# Altium schematic symbol library 6.Chips.SchLib: 209 symbols (part 3 of 3)
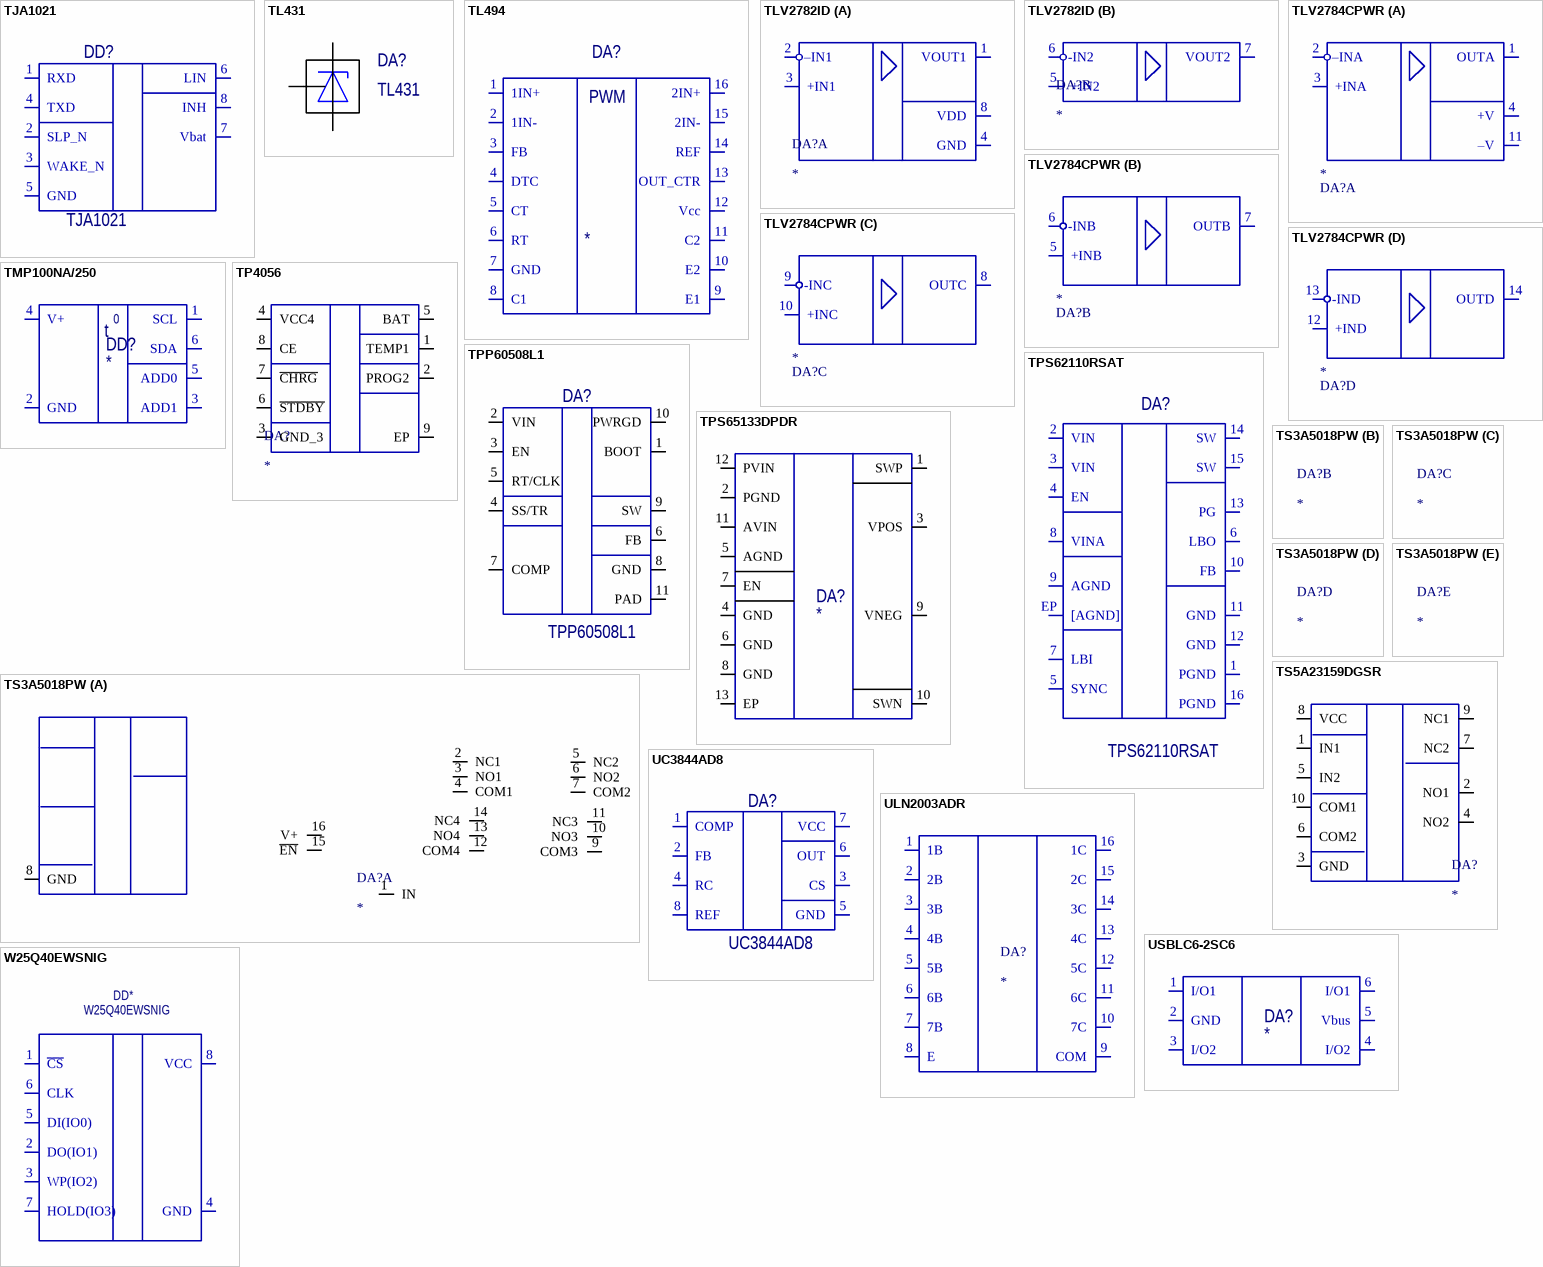
[diagram p21: symbols TJA1021 to W25Q40EWSNIG]

## TL494
designator DA?
Pulse-Width-Modulation Control Circuits
footprint DIP16
footprint SOIC-16
pins: 1 1IN+, 2 1IN-, 3 FB, 4 DTC, 5 CT, 6 RT, 7 GND, 8 C1, 9 E1, 10 E2, 11 C2, 12 Vcc, 13 OUT_CTR, 14 REF, 15 2IN-, 16 2IN+
text: PWM

## TLV2782ID
designator DA?
Dual, 3.6-V, 8-MHz, RRIO operational amplifier; Manufacturer_Name: Texas Instruments; Manufacturer_Part_Number: TLV2782ID; Datasheet Link: http://www.ti.com/lit/gpn/tlv2782; Height: 1.75mm; Mouser Part Number: 595-TLV2782ID; Mouser Price/Stock: https://www.mouser.co.uk/ProductDetail/Texas-Instruments/TLV2782ID?qs=KaAwwOlwaps46pVAsEzz%252Bw%3D%3D; Arrow Part Number: TLV2782ID; Arrow Price/Stock: https://www.arrow.com/en/products/tlv2782id/texas-instruments
footprint SO-8 (SOIC, 8-Leads, Body 4,90x3,90mm, Pitch 1,27mm, IPC Medium Density)
footprint TSSOP-8
part A pins: 1 VOUT1, 2 –IN1, 3 +IN1, 4 GND, 8 VDD
part B pins: 5 +IN2, 6 -IN2, 7 VOUT2

## TLV2784CPWR
designator DA?
Integrated Circuit; Manufacturer_Name: Texas Instruments; Manufacturer_Part_Number: TLV2784CPWR; Datasheet Link: http://www.ti.com/lit/gpn/tlv2784; Height: 1.2mm; Mouser Part Number: 595-TLV2784CPWR; Mouser Price/Stock: https://www.mouser.co.uk/ProductDetail/Texas-Instruments/TLV2784CPWR?qs=m96fseALk3VQ%2Fli%2FMNA%2FQg%3D%3D; Arrow Part Number: TLV2784CPWR; Arrow Price/Stock: https://www.arrow.com/en/products/tlv2784cpwr/texas-instruments?region=nac
footprint SOP65P640X120-14N
part A pins: 1 OUTA, 2 –INA, 3 +INA, 4 +V, 11 –V
part B pins: 5 +INB, 6 -INB, 7 OUTB
part C pins: 8 OUTC, 9 -INC, 10 +INC
part D pins: 12 +IND, 13 -IND, 14 OUTD

## TMP100NA/250
designator DD?
HelpURL: https://static.chipdip.ru/lib/245/DOC000245875.pdf
footprint SOT-23-6 (SOT23, 6-Leads, Body 1,60x1,60mm, Pitch 0,50mm, IPC Medium Density)
pins: 1 SCL, 2 GND, 3 ADD1, 4 V+ , 5 ADD0, 6 SDA
text: 0; t

## TP4056
designator DA?
1A Standalone Linear Li-lon Battery Charger with Thermal / Regulation in SOP-8; Manufacturer_Name: NanJing Top Power; Manufacturer_Part_Number: TP4056; Datasheet Link: https://dlnmh9ip6v2uc.cloudfront.net/datasheets/Prototyping/TP4056.pdf; Height: 1.75mm
footprint HSOIC8
pins: 1 TEMP1, 2 PROG2, 3 GND_3, 4 VCC4, 5 BAT, 6 ~{STDBY}, 7 ~{CHRG}, 8 CE, 9 EP

## TPP60508L1
designator DA?
DC-DC вход 60В 5A несинхронный понижающий
footprint DFN4x4-10 (4x4mm)
pins: 1 BOOT, 2 VIN, 3 EN, 4 SS/TR, 5 RT/CLK, 6 FB, 7 COMP, 8 GND, 9 SW, 10 PWRGD, 11 PAD

## TPS62110RSAT
designator DA?
Step-Down DC/DC Converters (Integrated Switch) 9V to 30V Input Max; ComponentLink1Description: ds; ComponentLink1URL: https://www.ti.com/lit/ds/symlink/tps62110.pdf?ts=1597961771362&ref_url=https%253A%252F%252Fwww.rlocman.ru%252Fdatasheet%252Fdata.html%253Fdi%253D219501%2526%252FTPS62110RSAT
footprint RSA (PQFN-16) (QFN, 16-Leads, Body 4.00x4.00mm, Pitch 0.65mm, Thermal Pad 2.70x2.70mm, IPC Medium Density)
pins: 1 PGND, 2 VIN, 3 VIN, 4 EN, 5 SYNC, 6 LBO, 7 LBI, 8 VINA, 9 AGND, 10 FB, 11 GND, 12 GND, 13 PG, 14 SW, 15 SW, 16 PGND, EP [AGND]

## TPS65133DPDR
designator DA?
±5V, 250-mA Dual-Output Power Supply
footprint WSON-12 (Footprint not found)
pins: 1 SWP, 2 PGND, 3 VPOS, 4 GND, 5 AGND, 6 GND, 7 EN, 8 GND, 9 VNEG, 10 SWN, 11 AVIN, 12 PVIN, 13 EP

## TS3A5018PW
designator DA?
Аналоговый ключ счетверенный SPDT 16TSSOP / Корпус: 16-TSSOP; Manufacturer_Name: Texas Instruments; Manufacturer_Part_Number: TS3A5018PW; Datasheet Link: http://www.ti.com/lit/gpn/TS3A5018; Height: 1.2mm; Mouser Part Number: 595-TS3A5018PW; Mouser Price/Stock: https://www.mouser.co.uk/ProductDetail/Texas-Instruments/TS3A5018PW?qs=0O%2FZFlpUpJUc9sI3WCMQxA%3D%3D; Arrow Part Number: TS3A5018PW; Arrow Price/Stock: https://www.arrow.com/en/products/ts3a5018pw/texas-instruments
footprint SO-16 (SOIC, 16-Leads, Body 9,90x3,90mm, Pitch 1,27mm, IPC Medium Density)
part A pins: 1 IN, 2 NC1, 3 NO1, 4 COM1, 5 NC2, 6 NO2, 7 COM2, 8 GND, 9 COM3, 10 NO3, 11 NC3, 12 COM4, 13 NO4, 14 NC4, 15 ~{EN}, 16 V+

## TS5A23159DGSR
designator DA?
Аналоговый ключ сдвоенный SPDT (один полюс -два направления; Manufacturer_Name: Texas Instruments; Manufacturer_Part_Number: TS5A23159DGSR; Datasheet Link: http://www.ti.com/lit/gpn/ts5a23159; Height: 1.1mm; Mouser Part Number: 595-TS5A23159DGSR; Mouser Price/Stock: https://www.mouser.co.uk/ProductDetail/Texas-Instruments/TS5A23159DGSR?qs=BBezV1N05%2FsTd3NWlbW5BA%3D%3D; Arrow Part Number: TS5A23159DGSR; Arrow Price/Stock: https://www.arrow.com/en/products/ts5a23159dgsr/texas-instruments?region=nac
footprint VSSOP-10 (VSSOP-8)
pins: 1 IN1, 2 NO1, 3 GND, 4 NO2, 5 IN2, 6 COM2, 7 NC2, 8 VCC, 9 NC1, 10 COM1

## UC3844AD8
designator DA?
footprint SO-8 (SOIC, 8-Leads, Body 4,90x3,90mm, Pitch 1,27mm, IPC Medium Density)
pins: 1 COMP, 2 FB, 3 CS, 4 RC, 5 GND, 6 OUT, 7 VCC, 8 REF

## ULN2003ADR
designator DA?
footprint SO-16 (SOIC, 16-Leads, Body 9,90x3,90mm, Pitch 1,27mm, IPC Medium Density)
pins: 1 1B, 2 2B, 3 3B, 4 4B, 5 5B, 6 6B, 7 7B, 8 E, 9 COM, 10 7C, 11 6C, 12 5C, 13 4C, 14 3C, 15 2C, 16 1C

## USBLC6-2SC6
designator DA?
HelpURL: https://static.chipdip.ru/lib/093/DOC001093117.pdf
footprint SOT-23-6 (SOT23, 6-Leads, Body 1,60x1,60mm, Pitch 0,50mm, IPC Medium Density)
pins: 1 I/O1, 2 GND, 3 I/O2, 4 I/O2, 5 Vbus, 6 I/O1

## W25Q40EWSNIG
designator DD*
footprint SOIC127P600X175-8N
pins: 1 ~{CS}, 2 DO(IO1), 3 WP(IO2), 4 GND, 5 DI(IO0), 6 CLK, 7 HOLD(IO3), 8 VCC

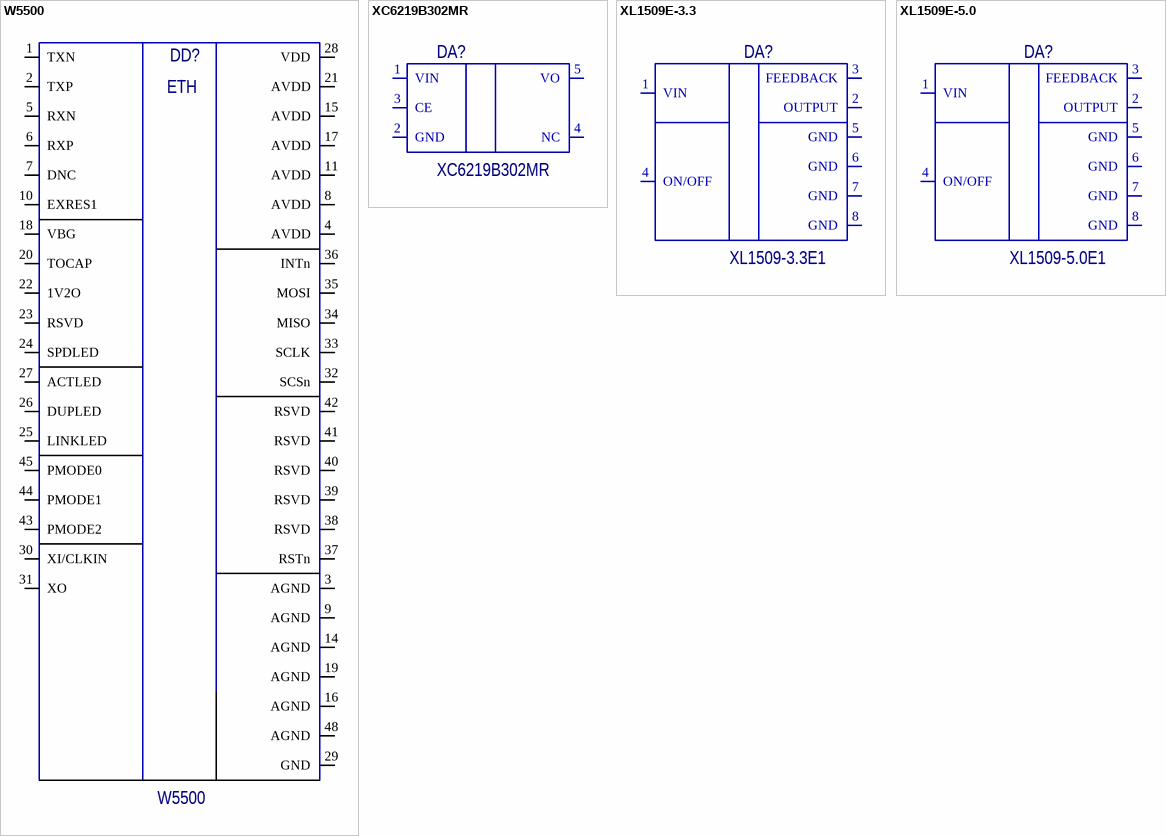
[diagram p19: symbols W5500 to XL1509E-5.0]

## W5500
designator DD?
Hardwired TCP/IP embedded Ethernet controller
footprint LQFP48 (TSQFP, 48-Leads, Body 7,00x7,00mm, Pitch 0,50mm, IPC Medium Density)
pins: 1 TXN, 2 TXP, 3 AGND, 4 AVDD, 5 RXN, 6 RXP, 7 DNC, 8 AVDD, 9 AGND, 10 EXRES1, 11 AVDD, 14 AGND, 15 AVDD, 16 AGND, 17 AVDD, 18 VBG, 19 AGND, 20 TOCAP, 21 AVDD, 22 1V2O, 23 RSVD, 24 SPDLED, 25 LINKLED, 26 DUPLED, 27 ACTLED, 28 VDD, 29 GND, 30 XI/CLKIN, 31 XO, 32 SCSn, 33 SCLK, 34 MISO, 35 MOSI, 36 INTn, 37 RSTn, 38 RSVD, 39 RSVD, 40 RSVD, 41 RSVD, 42 RSVD, 43 PMODE2, 44 PMODE1, 45 PMODE0, 48 AGND
text: ETH

## XC6219B302MR
designator DA?
LDO стабилизатор напряжения, +3.0В, 300мА
footprint SOT-23-5 (SOT23, 5-Leads, Body 2,90x2,80mm, Pitch 0,95mm, IPC Medium Density)
pins: 1 VIN, 2 GND, 3 CE, 4 NC, 5 VO

## XL1509E-3.3
designator DA?, comment XL1509-3.3E1
DC-DC fixed output 3.3 V 3А 150кГц SOIC-8; Manufacturer_Name: XLSEMI; Manufacturer_Part_Number: XL1509-5.0E1; Datasheet Link: https://datasheet.lcsc.com/szlcsc/XLSEMI-XL1509-5-0E1_C61063.pdf; Height: 1.75mm
footprint HSOIC8
pins: 1 VIN, 2 OUTPUT, 3 FEEDBACK, 4 ON/OFF, 5 GND, 6 GND, 7 GND, 8 GND

## XL1509E-5.0
designator DA?, comment XL1509-5.0E1
DC-DC fixed output 5.0 V 3А 150кГц SOIC-8; Manufacturer_Name: XLSEMI; Datasheet Link: https://datasheet.lcsc.com/szlcsc/XLSEMI-XL1509-5-0E1_C61063.pdf; Height: 1.75mm; Manufacturer_Part_Number: XL1509-5.0E1
footprint HSOIC8
pins: 1 VIN, 2 OUTPUT, 3 FEEDBACK, 4 ON/OFF, 5 GND, 6 GND, 7 GND, 8 GND